# Altium footprint library USB.PcbLib: 7 footprints
Each footprint in its own frame and in the unit in brackets; x right, y up, seen from the top. Pads: shape width x height; smd on the part's side, far side on the other; paste and mask are expansions set on the pad; w line width, h text height; cw(c..) or ccw(c..) is an arc to the next point about the centre after c.
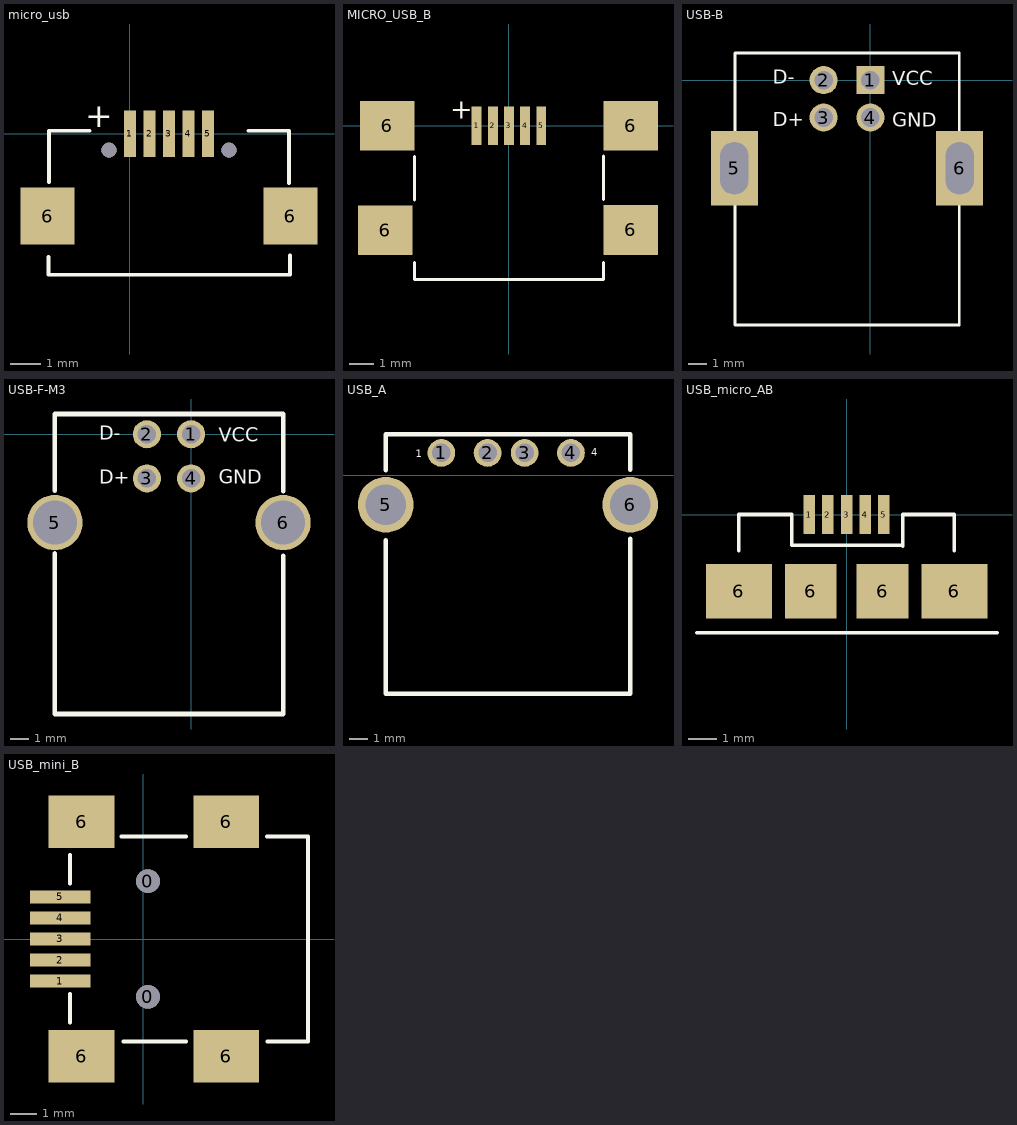
[diagram p0: the footprints below, top view; thin cyan lines are the x and y axes]

## micro_usb [mm]
pads (9):
  rect 0.4x1.55 smd: 1(0,0) 2(0.65,0) 3(1.3,0) 4(1.95,0) 5(2.6,0)
  rect 1.8x1.9 smd: 6(-2.75,-2.75) 6(5.35,-2.75)
  round 0.5 hole 0.5 unplated: ""(-0.7,-0.55) ""(3.3,-0.55)
Top Overlay:
  lines w0.127: -2.716,-4.113 -2.716,-4.699 5.334,-4.699 5.334,-4.064 ; -2.7,-1.616 -2.7,0.1 -1.35,0.1 ; 3.95,0.1 5.3,0.1 5.3,-1.65
  text "+" at -1.494,0.213 h0.8

## MICRO_USB_B [mm]
pads (9):
  rect 0.4x1.55 smd: 1(-1.3,0.005) 2(-0.65,0.005) 3(0,0.005) 4(0.65,0.005) 5(1.3,0.005)
  rect 2.2x2 smd: 6(-4.98,-4.21) 6(-4.9,0) 6(4.9,-4.2) 6(4.9,0)
Top Overlay:
  lines w0.127: -3.8,-5.52 -3.8,-6.2 3.8,-6.2 3.8,-5.52 ; -3.8,-2.98 -3.8,-1.25 ; 3.8,-2.96 3.8,-1.23
  text "+" at -2.37,0.27 h0.8

## USB-B [mm]
pads (6):
  rect 1.5x1.5 hole 1: 1(0,0)
  round 1.5 hole 1: 2(-2.5,0) 3(-2.5,-2) 4(0,-2)
  rect 2.5x4 hole 1.5 slot 2.8 at 90 deg: 5(-7.27,-4.71) 6(4.77,-4.71)
Top Overlay:
  lines w0.152: -7.239,-6.47 -7.239,-13.09 4.75,-13.09 4.75,-6.42 ; -7.239,-2.89 -7.239,1.448 4.75,1.448 4.75,-2.99
  text "GND" at 1.168,-2.489 h0.76
  text "D+" at -5.232,-2.464 h0.76
  text "D-" at -5.207,-0.203 h0.76
  text "VCC" at 1.168,-0.279 h0.76

## USB-F-M3 [mm]
pads (6):
  round 1.524 hole 1: 1(0,0) 2(-2.4,0) 3(-2.4,-2.4) 4(0,-2.4)
  round 3 hole 2.4: 5(-7.4,-4.8) 6(5,-4.8)
Top Overlay:
  lines w0.254: -7.4,-6.477 -7.4,-15.2 5,-15.2 ; -7.4,-3.073 -7.4,1.1 5,1.1 5,-3.099 ; 4.953,-15.2 5,-15.153 5,-6.604
  text "D-" at -5,-0.3 h0.76
  text "D+" at -5,-2.7 h0.76
  text "GND" at 1.5,-2.7 h0.76
  text "VCC" at 1.5,-0.4 h0.76

## USB_A [mm]
pads (6):
  round 1.5 hole 1: 1(-24.317,1.213) 2(-21.817,1.213) 3(-19.817,1.213) 4(-17.317,1.213)
  round 3 hole 2.2: 5(-27.317,-1.587) 6(-14.117,-1.587)
Top Overlay:
  lines w0.254: -27.317,-3.505 -27.317,-11.787 -14.117,-11.787 ; -27.317,0.279 -27.317,2.213 -14.117,2.213 ; -14.109,-11.787 -14.109,-3.429 ; -14.109,0.305 -14.109,2.213
  text "1" at -25.71,0.97 h0.4
  text "4" at -16.21,1.06 h0.4

## USB_micro_AB [mm] "micro USB 座(兼容A和B)"
pads (9):
  rect 0.4x1.35 smd: 1(-1.3,0) 2(-0.65,0) 3(0,0) 4(0.65,0) 5(1.3,0)
  rect 2.3x1.9 smd: 6(-3.75,-2.675) 6(3.75,-2.675)
  rect 1.8x1.9 smd: 6(-1.25,-2.675) 6(1.25,-2.675)
Top Overlay:
  lines w0.127: -5.207,-4.115 5.232,-4.115 ; -3.75,-1.253 -3.75,0 -1.905,0 -1.905,-1.067 1.93,-1.067 1.956,-1.092 1.956,0 3.75,0 3.75,-1.253

## USB_mini_B [mm] "Mini USB 座"
pads (11):
  round 0.9 hole 0.9: 0(0.175,2.2) 0(0.175,-2.2)
  rect 2.3x0.5 smd: 1(-3.15,-1.6) 2(-3.15,-0.8) 3(-3.15,0) 4(-3.15,0.8) 5(-3.15,1.6)
  rect 2.5x2 smd: 6(-2.35,-4.45) 6(-2.35,4.45) 6(3.15,-4.45) 6(3.15,4.45)
Top Overlay:
  lines w0.152: -2.794,-3.175 -2.794,-2.083 ; -2.794,2.108 -2.794,3.2 ; -0.838,3.9 1.626,3.9 ; -0.762,-3.9 1.626,-3.9 ; 4.699,3.9 6.25,3.9 6.25,-3.9 4.724,-3.9